# EAGLE library part 7LAN+1SFP (library switch)
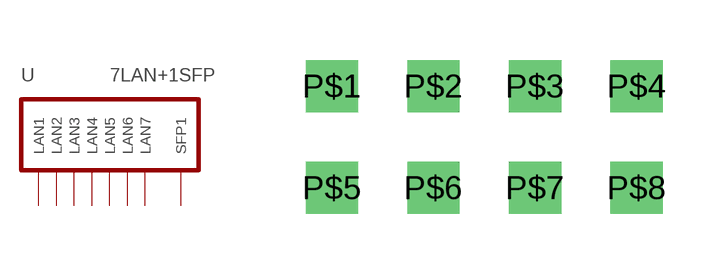
[diagram p1: symbol with the pads of 8PIN; footprint 8PIN]

Designator prefix -

## 7LAN+1SFP  [8PIN]
P$1  LAN1
P$2  LAN2
P$3  LAN3
P$4  LAN4
P$5  LAN5
P$6  LAN6
P$7  LAN7
P$8  SFP1

## Footprint 8PIN (pad centres in mm)
drill 0.8 square: P$1 -3.81,1.27; P$2 -1.27,1.27; P$3 1.27,1.27; P$4 3.81,1.27; P$5 -3.81,-1.27; P$6 -1.27,-1.27; P$7 1.27,-1.27; P$8 3.81,-1.27